# EAGLE library part MC1321X (library GW-devices)
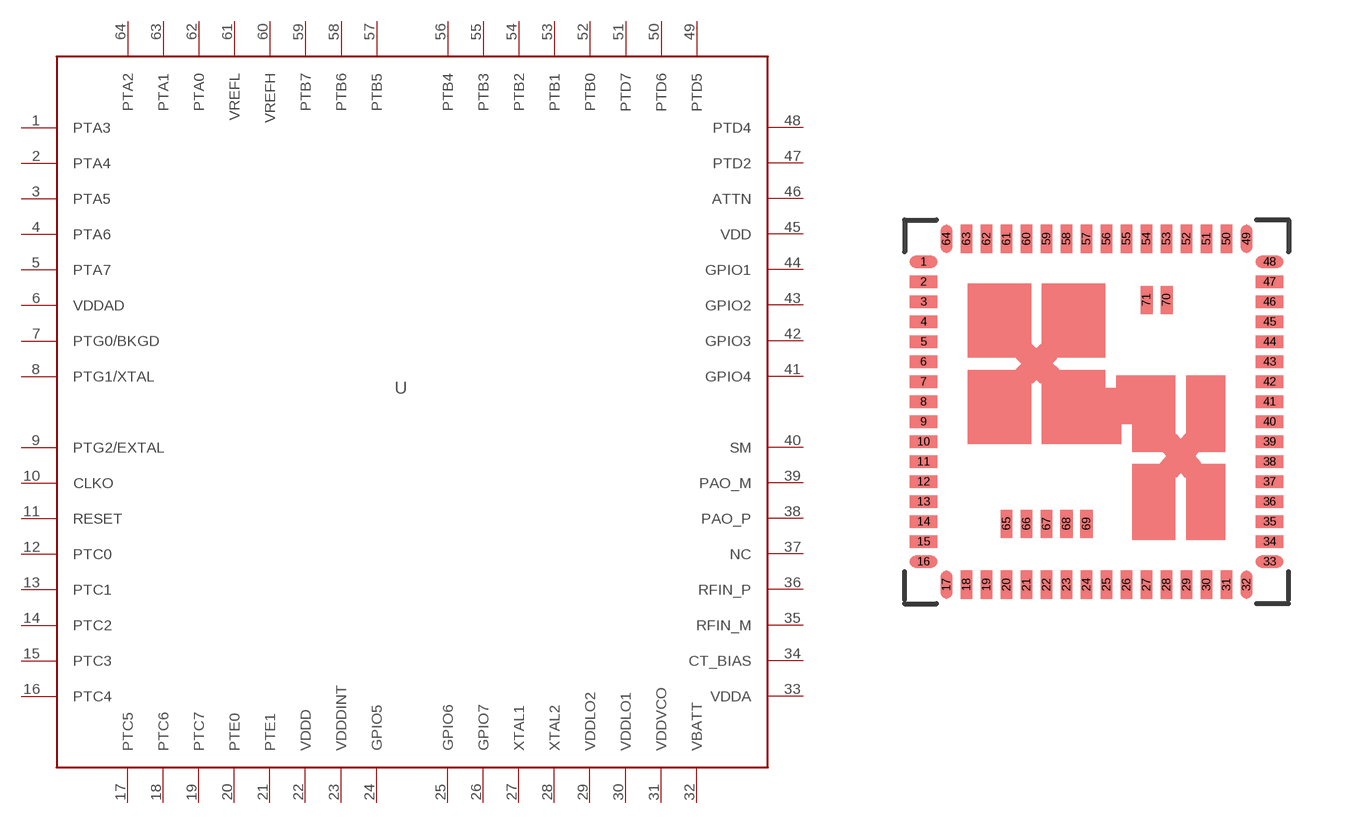
[diagram p5: symbol with the pads of MC1321X; footprint MC1321X]

Designator prefix -

## MC1321X  [MC1321X]
1  PTA3
2  PTA4
3  PTA5
4  PTA6
5  PTA7
6  VDDAD
7  PTG0/BKGD
8  PTG1/XTAL
9  PTG2/EXTAL
10  CLKO
11  RESET
12  PTC0
13  PTC1
14  PTC2
15  PTC3
16  PTC4
17  PTC5
18  PTC6
19  PTC7
20  PTE0
21  PTE1
22  VDDD
23  VDDDINT
24  GPIO5
25  GPIO6
26  GPIO7
27  XTAL1
28  XTAL2
29  VDDLO2
30  VDDLO1
31  VDDVCO
32  VBATT
33  VDDA
34  CT_BIAS
35  RFIN_M
36  RFIN_P
37  NC
38  PAO_P
39  PAO_M
40  SM
41  GPIO4
42  GPIO3
43  GPIO2
44  GPIO1
45  VDD
46  ATTN
47  PTD2
48  PTD4
49  PTD5
50  PTD6
51  PTD7
52  PTB0
53  PTB1
54  PTB2
55  PTB3
56  PTB4
57  PTB5
58  PTB6
59  PTB7
60  VREFH
61  VREFL
62  PTA0
63  PTA1
64  PTA2

## Footprint MC1321X (pad centres in mm)
smd 0.7 x 0.3: 1 -4.325,3.75; 2 -4.325,3.25; 3 -4.325,2.75; 4 -4.325,2.25; 5 -4.325,1.75; 6 -4.325,1.25; 7 -4.325,0.75; 8 -4.325,0.25; 9 -4.325,-0.25; 10 -4.325,-0.75; 11 -4.325,-1.25; 12 -4.325,-1.75; 13 -4.325,-2.25; 14 -4.325,-2.75; 15 -4.325,-3.25; 16 -4.325,-3.75; 33 4.325,-3.75; 34 4.325,-3.25; 35 4.325,-2.75; 36 4.325,-2.25; 37 4.325,-1.75; 38 4.325,-1.25; 39 4.325,-0.75; 40 4.325,-0.25; 41 4.325,0.25; 42 4.325,0.75; 43 4.325,1.25; 44 4.325,1.75; 45 4.325,2.25; 46 4.325,2.75; 47 4.325,3.25; 48 4.325,3.75
smd 0.3 x 0.7: 17 -3.75,-4.325; 18 -3.25,-4.325; 19 -2.75,-4.325; 20 -2.25,-4.325; 21 -1.75,-4.325; 22 -1.25,-4.325; 23 -0.75,-4.325; 24 -0.25,-4.325; 25 0.25,-4.325; 26 0.75,-4.325; 27 1.25,-4.325; 28 1.75,-4.325; 29 2.25,-4.325; 30 2.75,-4.325; 31 3.25,-4.325; 32 3.75,-4.325; 49 3.75,4.325; 50 3.25,4.325; 51 2.75,4.325; 52 2.25,4.325; 53 1.75,4.325; 54 1.25,4.325; 55 0.75,4.325; 56 0.25,4.325; 57 -0.25,4.325; 58 -0.75,4.325; 59 -1.25,4.325; 60 -1.75,4.325; 61 -2.25,4.325; 62 -2.75,4.325; 63 -3.25,4.325; 64 -3.75,4.325; 65 -2.25,-2.8; 66 -1.75,-2.8; 67 -1.25,-2.8; 68 -0.75,-2.8; 69 -0.25,-2.8; 70 1.75,2.8; 71 1.25,2.8